# Altium integrated library Linear Technology Power Management Switching Regulator LTC1174-LTC3901.IntLib: 2647 symbols (part 277 of 364)
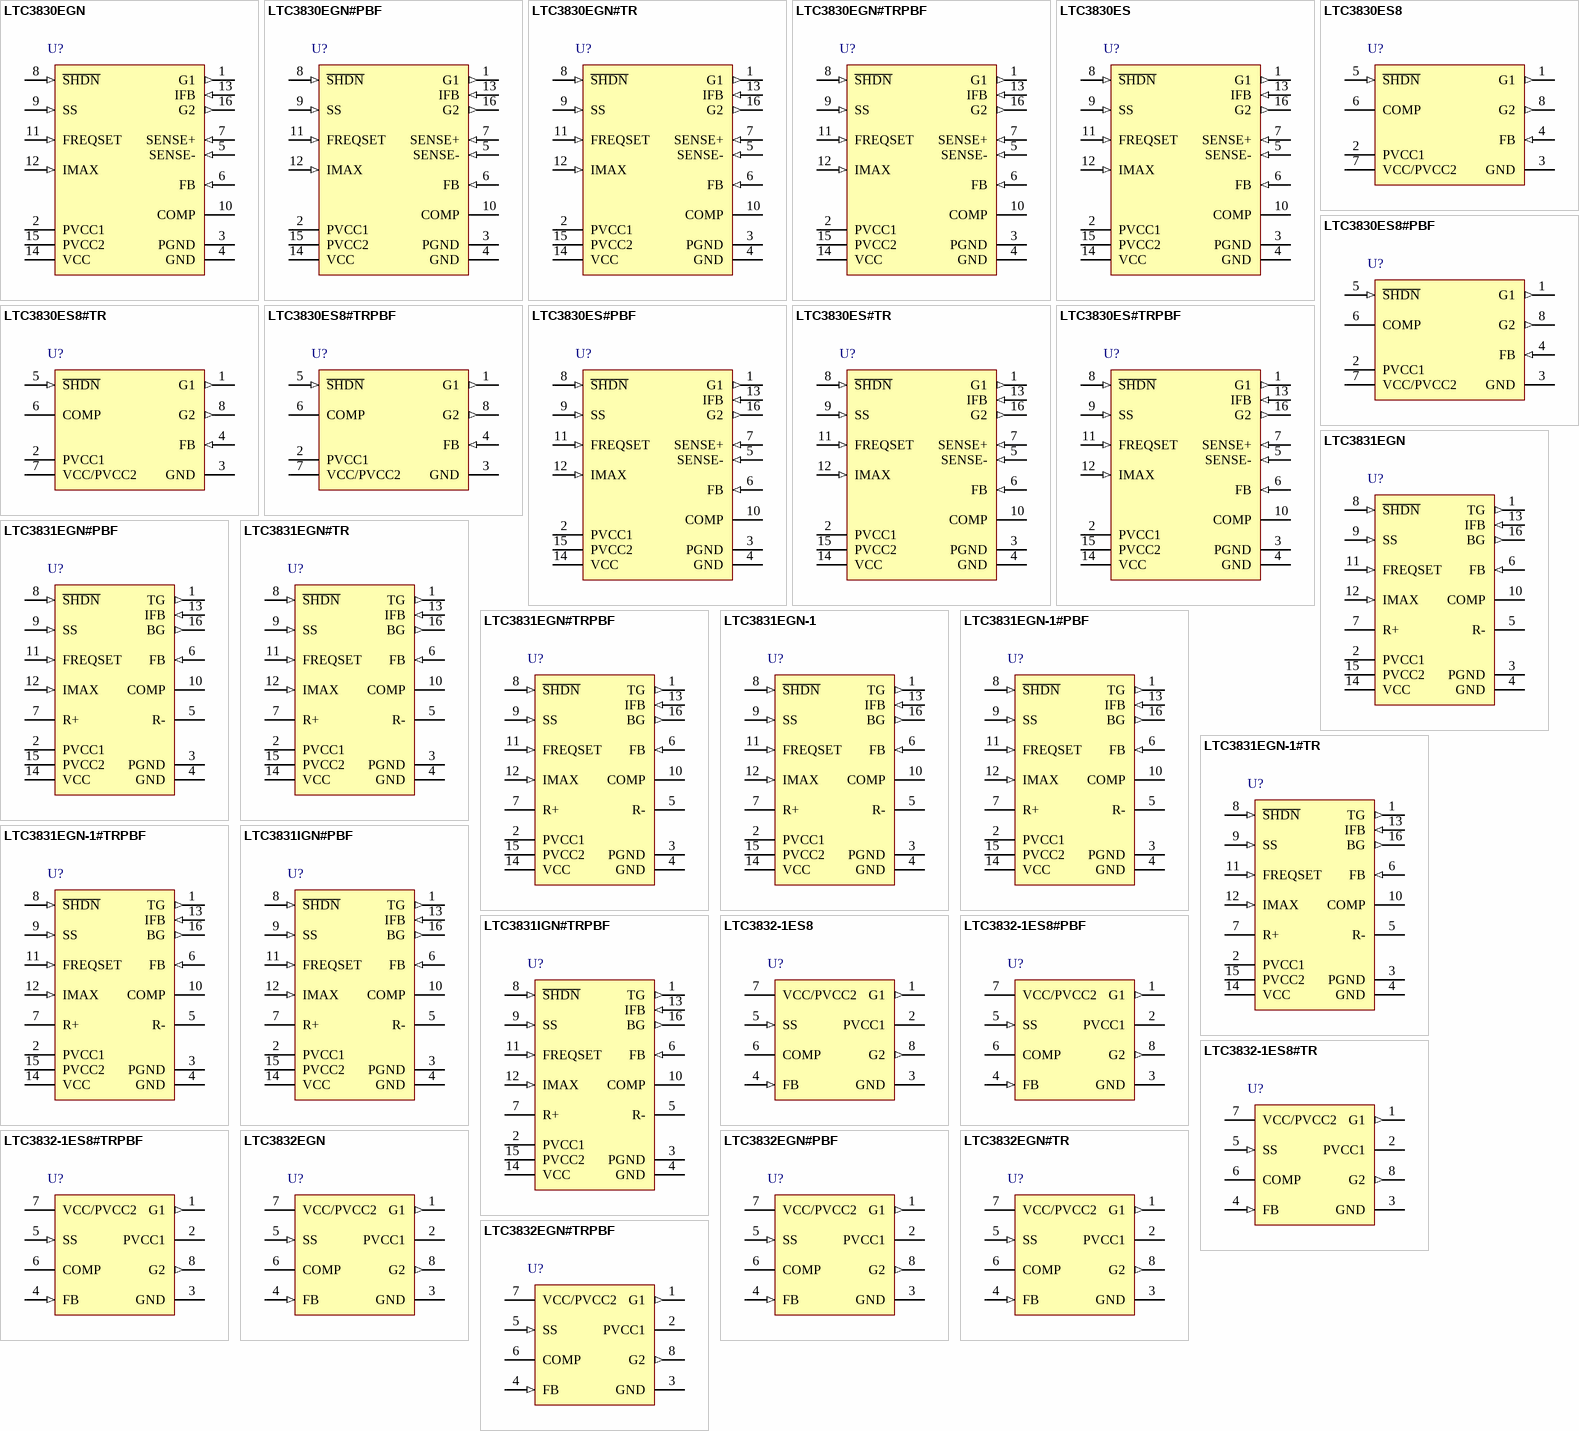
[diagram p259: symbols LTC3830EGN to LTC3832EGN#TRPBF]

## LTC3832EGN#PBF
designator U?
High Power Step-Down Synchronous DC/DC Controller for Low Voltage Operation, 16-pin SOP (GN-16), -40 to 85 degC, Pb-Free; Manufacturer: Linear Technology; PartNumber: LTC3832EGN#PBF; Frequency Sync Range: 100kHz - 500kHz; Number of Outputs: 1; PackageVersion: Rev. B, 03/2012; PackageReference: GN-16; PackageDescription: 16-Pin Plastic SSOP, Body 4.9 x 3.9 mm, Pitch 0.635 mm; Supplier 1: Digi-Key; Supplier Part Number 1: LTC3832EGN#PBF-ND; Supplier 2: Newark; Supplier Part Number 2: 56M8586; RoHS: TRUE; Mounting Technology: Surface Mount; ComponentLink1Description: Manufacturer URL; ComponentLink1URL: http://www.linear.com/; ComponentLink2Description: Datasheet; ComponentLink2URL: http://cds.linear.com/docs/en/datasheet/3832fs.pdf; ComponentLink3Description: Package Specification; ComponentLink3URL: http://cds.linear.com/docs/en/packaging/05081641_B_GN16.pdf
footprint LT-GN-16_N (SOP, 16-Leads, Body 5x4mm, Pitch 0.635mm, IPC Medium Density)
footprint LT-GN-16_L (SOP, 16-Leads, Body 5x4mm, Pitch 0.635mm, IPC High Density)
footprint LT-GN-16_M (SOP, 16-Leads, Body 5x4mm, Pitch 0.635mm, IPC Low Density)
pins: 1 G1 (out) "Top Gate Driver Output. Connect this pin to the gate of the upper N-channel MOSFET, Q1. This output swings from PGND to PVCC1. It remains low if G2 is high or during shutdown mode.", 2 PVCC1 (power) "Power Supply Input for G1. Connect this pin to a potential of at least VIN + VGS(ON)(Q1). This potential can be generated using an external supply or charge pump.", 3 GND (power) "Signal Ground. All low power internal circuitry returns to this pin.", 4 FB (in) "These three pins connect to the internal resistor divider and input of the error amplifier.", 5 SS (in) "Soft-Start. Connect this pin to an external capacitor, CSS, to implement a soft-start function.", 6 COMP "External Compensation. This pin internally connects to the output of the error amplifier and input of the PWM comparator. Use a RC + C network at this pin to compensate the feedback loop to provide optimum transient response.", 7 VCC/PVCC2 (power), 8 G2 (out) "Bottom Gate Driver Output. Connect this pin to the gate of the lower N-channel MOSFET, Q2. This output swings from PGND to PVCC2. It remains low when G1 is high or during shutdown mode. To prevent output undershoot during a (See Datasheet)"

## LTC3832EGN#TR
designator U?
High Power Step-Down Synchronous DC/DC Controller for Low Voltage Operation, 16-pin SOP (GN-16), -40 to 85 degC, Tape and Reel; Manufacturer: Linear Technology; PartNumber: LTC3832EGN#TR; Frequency Sync Range: 100kHz - 500kHz; Number of Outputs: 1; PackageVersion: Rev. B, 03/2012; PackageReference: GN-16; PackageDescription: 16-Pin Plastic SSOP, Body 4.9 x 3.9 mm, Pitch 0.635 mm; Supplier 1: Digi-Key; Supplier Part Number 1: LTC3832EGN#TR-ND; Packing: Tape and Reel; RoHS: FALSE; Mounting Technology: Surface Mount; ComponentLink1Description: Manufacturer URL; ComponentLink1URL: http://www.linear.com/; ComponentLink2Description: Datasheet; ComponentLink2URL: http://cds.linear.com/docs/en/datasheet/3832fs.pdf; ComponentLink3Description: Package Specification; ComponentLink3URL: http://cds.linear.com/docs/en/packaging/05081641_B_GN16.pdf
footprint LT-GN-16_N (SOP, 16-Leads, Body 5x4mm, Pitch 0.635mm, IPC Medium Density)
footprint LT-GN-16_L (SOP, 16-Leads, Body 5x4mm, Pitch 0.635mm, IPC High Density)
footprint LT-GN-16_M (SOP, 16-Leads, Body 5x4mm, Pitch 0.635mm, IPC Low Density)
pins: 1 G1 (out) "Top Gate Driver Output. Connect this pin to the gate of the upper N-channel MOSFET, Q1. This output swings from PGND to PVCC1. It remains low if G2 is high or during shutdown mode.", 2 PVCC1 (power) "Power Supply Input for G1. Connect this pin to a potential of at least VIN + VGS(ON)(Q1). This potential can be generated using an external supply or charge pump.", 3 GND (power) "Signal Ground. All low power internal circuitry returns to this pin.", 4 FB (in) "These three pins connect to the internal resistor divider and input of the error amplifier.", 5 SS (in) "Soft-Start. Connect this pin to an external capacitor, CSS, to implement a soft-start function.", 6 COMP "External Compensation. This pin internally connects to the output of the error amplifier and input of the PWM comparator. Use a RC + C network at this pin to compensate the feedback loop to provide optimum transient response.", 7 VCC/PVCC2 (power), 8 G2 (out) "Bottom Gate Driver Output. Connect this pin to the gate of the lower N-channel MOSFET, Q2. This output swings from PGND to PVCC2. It remains low when G1 is high or during shutdown mode. To prevent output undershoot during a (See Datasheet)"

## LTC3832EGN#TRPBF
designator U?
High Power Step-Down Synchronous DC/DC Controller for Low Voltage Operation, 16-pin SOP (GN-16), -40 to 85 degC, Pb-Free, Tape and Reel; Manufacturer: Linear Technology; PartNumber: LTC3832EGN#TRPBF; Frequency Sync Range: 100kHz - 500kHz; Number of Outputs: 1; PackageVersion: Rev. B, 03/2012; PackageReference: GN-16; PackageDescription: 16-Pin Plastic SSOP, Body 4.9 x 3.9 mm, Pitch 0.635 mm; Supplier 1: Digi-Key; Supplier Part Number 1: LTC3832EGN#TRPBFTR-ND; Supplier 2: Digi-Key; Supplier Part Number 2: LTC3832EGN#TRPBFCT-ND; Supplier 3: Digi-Key; Supplier Part Number 3: LTC3832EGN#TRPBFDKR-ND; Supplier 4: Newark; Supplier Part Number 4: 56M8588; Packing: Tape and Reel; RoHS: TRUE; Mounting Technology: Surface Mount; ComponentLink1Description: Manufacturer URL; ComponentLink1URL: http://www.linear.com/; ComponentLink2Description: Datasheet; ComponentLink2URL: http://cds.linear.com/docs/en/datasheet/3832fs.pdf; ComponentLink3Description: Package Specification; ComponentLink3URL: http://cds.linear.com/docs/en/packaging/05081641_B_GN16.pdf
footprint LT-GN-16_N (SOP, 16-Leads, Body 5x4mm, Pitch 0.635mm, IPC Medium Density)
footprint LT-GN-16_L (SOP, 16-Leads, Body 5x4mm, Pitch 0.635mm, IPC High Density)
footprint LT-GN-16_M (SOP, 16-Leads, Body 5x4mm, Pitch 0.635mm, IPC Low Density)
pins: 1 G1 (out) "Top Gate Driver Output. Connect this pin to the gate of the upper N-channel MOSFET, Q1. This output swings from PGND to PVCC1. It remains low if G2 is high or during shutdown mode.", 2 PVCC1 (power) "Power Supply Input for G1. Connect this pin to a potential of at least VIN + VGS(ON)(Q1). This potential can be generated using an external supply or charge pump.", 3 GND (power) "Signal Ground. All low power internal circuitry returns to this pin.", 4 FB (in) "These three pins connect to the internal resistor divider and input of the error amplifier.", 5 SS (in) "Soft-Start. Connect this pin to an external capacitor, CSS, to implement a soft-start function.", 6 COMP "External Compensation. This pin internally connects to the output of the error amplifier and input of the PWM comparator. Use a RC + C network at this pin to compensate the feedback loop to provide optimum transient response.", 7 VCC/PVCC2 (power), 8 G2 (out) "Bottom Gate Driver Output. Connect this pin to the gate of the lower N-channel MOSFET, Q2. This output swings from PGND to PVCC2. It remains low when G1 is high or during shutdown mode. To prevent output undershoot during a (See Datasheet)"

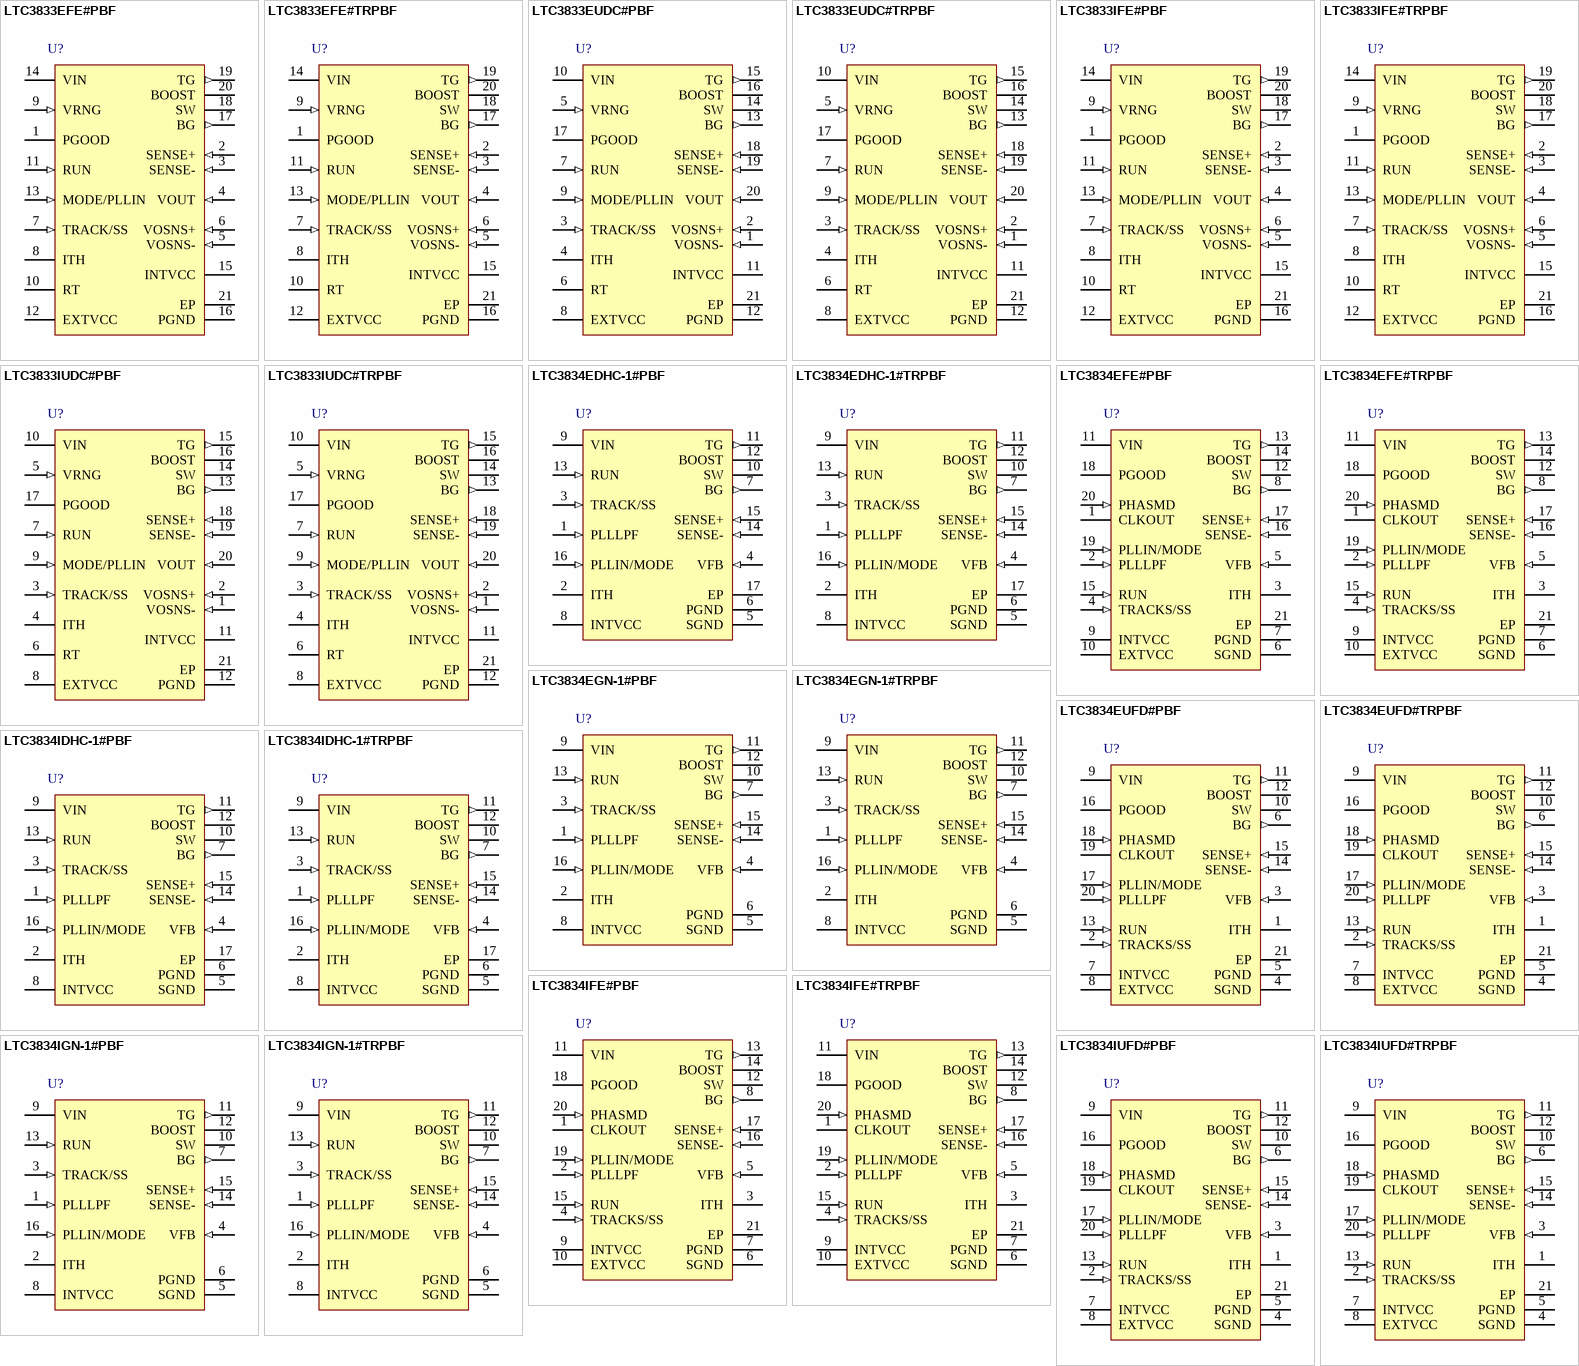
[diagram p86: symbols LTC3833EFE#PBF to LTC3834IUFD#TRPBF]

## LTC3833EFE#PBF
designator U?
Fast, Accurate Step-Down DC/DC Controller with Differential Output Sensing, 20-pin SOP (FE-20-EPV-CB), -40 to 125 degC, Pb-Free; Manufacturer: Linear Technology; PartNumber: LTC3833EFE#PBF; Frequency Sync Range: 200kHz - 2MHz; Number of Outputs: 1; PackageVersion: Rev. I, 05/2011; PackageReference: FE-20; PackageDescription: 20-Pin Plastic TSSOP, Body 6.5 x 4.4 mm, Pitch 0.65 mm; Supplier 1: Digi-Key; Supplier Part Number 1: LTC3833EFE#PBF-ND; Supplier 2: Farnell; Supplier Part Number 2: 1869417; Supplier 3: Newark; Supplier Part Number 3: 13T3919; RoHS: TRUE; Mounting Technology: Surface Mount; ComponentLink1Description: Manufacturer URL; ComponentLink1URL: http://www.linear.com/; ComponentLink2Description: Datasheet; ComponentLink2URL: http://cds.linear.com/docs/en/datasheet/3833f.pdf; ComponentLink3Description: Package Specification; ComponentLink3URL: http://cds.linear.com/docs/en/packaging/05081663__J_FE20(CB).pdf
footprint LT-FE-20-EPV-CB_N (SOP, 20-Leads, Body 6.6x4.5mm, Pitch 0.65mm, Thermal Pad 3.86x2.74mm, IPC Medium Density)
footprint LT-FE-20-EPV-CB_L (SOP, 20-Leads, Body 6.6x4.5mm, Pitch 0.65mm, Thermal Pad 3.86x2.74mm, IPC High Density)
footprint LT-FE-20-EPV-CB_M (SOP, 20-Leads, Body 6.6x4.5mm, Pitch 0.65mm, Thermal Pad 3.86x2.74mm, IPC Low Density)
pins: 1 PGOOD (oc) "Power Good Indicator Output. This open-drain logic output is pulled to ground when the output voltage is outside of a +/-7.5% window around the regulation point.", 2 SENSE+ (in) "Differential Current Sensing (+) Input. For RSENSE current sensing, Kelvin (4-wire) connect SENSE+ and SENSE- pins across the sense resistor. For DCR sensing, Kelvin connect SENSE+ and SENSE- pins across the sense filter (See Datasheet)", 3 SENSE- (in) "Differential Current Sensing (-) Input. For RSENSE current sensing, Kelvin (4-wire) connect SENSE+ and SENSE- pins across the sense resistor. For DCR sensing, Kelvin connect SENSE+ and SENSE- pins across the sense filter (See Datasheet)", 4 VOUT (in) "Output voltage sense for adjusting the TG on-time for constant frequency operation. Tying this pin to the local output (instead of remote output) is recommended for most applications. This pin can be programmed as needed for (See Datasheet)", 5 VOSNS- (in) "Differential Output Sensing (-) Input. Connect this pin to the negative terminal of the output capacitor. There is a bias current of 35uA (typical) flowing out of this pin.", 6 VOSNS+ (in) "Differential Output Sensing (+) Input. Connect this pin to the feedback resistor divider between the positive and negative output capacitor terminals. In nominal operation the LTC3833 will regulate the differential output (See Datasheet)", 7 TRACK/SS (in) "External Tracking and Soft-Start Input. The LTC3833 regulates the differential feedback voltage (VOSNS + - VOSNS -) to the smaller of 0.6V or the voltage on the TRACK/SS pin. An internal 1.0uA pull-up current source is (See Datasheet)", 8 ITH "Current Control Voltage and Switching Regulator Compensation Point. The current sense threshold increases with this control voltage which ranges from 0V to 2.4V.", 9 VRNG (in) "Current Sense Voltage Range Input. The maximum allowed sense voltage between SENSE+ and SENSE- is equal to 0.05 • VRNG. If VRNG is tied to SGND, the device operates with a maximum sense voltage of 30mV. If VRNG is tied t(See Datasheet)", 10 RT "Switching Frequency Programming Pin. Connect an external resistor from RT to signal ground to program the switching frequency between 200kHz and 2MHz. An external clock applied to MODE/PLLIN must be within +/-30% of this (See Datasheet)", 11 RUN (in) "Digital Run Control Input. RUN self biases high with an internal 1.3uA pull-up. Forcing RUN below 1.2V turns off TG and BG. Taking RUN below 0.75V shuts down all bias and places the LTC3833 into micropower shutdown mode of (See Datasheet)", 12 EXTVCC (power) "External VCC Input. When EXTVCC exceeds 4.6V, an internal switch connects this pin to INTVCC and shuts down the internal regulator so that the controller and gate drive power is drawn from EXTVCC. EXTVCC should not exceed (See Datasheet)", 13 MODE/PLLIN (in) "External Clock Synchronization Input and/or Forced Continuous Mode Input. When an external clock is applied to this pin, the rising TG signal will be synchronized with the rising edge of the external clock. Additionally, (See Datasheet)", 14 VIN (power) "Main Supply Input. The supply voltage can range from 4.5V to 38V. For increased noise immunity decouple this pin to signal ground with an RC filter. The voltage on this pin is also used to adjust the TG on-time in order to (See Datasheet)", 15 INTVCC (power) "Internal 5.3V Regulator Output. The driver and control circuits are powered from this voltage. Decouple this pin to power ground with a minimum of 4.7uF ceramic capacitor (CVCC). The anode of the Schottky diode, DB, connects (See Datasheet)", 16 PGND (power) "Power Ground Connection. Connect this pin as close as practical to the source of the bottom N-channel power MOSFET, the (-) terminal of CVCC and the (-) terminal of CIN.", 17 BG (out) "Bottom Gate Drive Output. This pin drives the gate of the bottom N-channel power MOSFET between INTVCC and power ground.", 18 SW "Switch Node Connection. The (-) terminal of the bootstrap capacitor, CB, connects to this node. This pin swings from a diode voltage below ground up to VIN.", 19 TG (out) "Top Gate Drive Output. This pin drives the gate of the top N-Channel power MOSFET between VSW and VBOOST .", 20 BOOST "Boosted Driver Supply Connection. The (+) terminal of the bootstrap capacitor, CB, as well as the cathode of the Schottky diode, DB, connects to this node. This node swings from INTVCC - VSCHOTTKY to VIN + INTVCC - VSCHOTTKY.", 21 EP (power) "Signal Ground Connection. The SGND exposed pad must be soldered to the circuit board for electrical contact and rated thermal performance. All small-signal components should be connected to the signal ground. Connect signal (See Datasheet)"

## LTC3833EFE#TRPBF
designator U?
Fast, Accurate Step-Down DC/DC Controller with Differential Output Sensing, 20-pin SOP (FE-20-EPV-CB), -40 to 125 degC, Pb-Free, Tape and Reel; Manufacturer: Linear Technology; PartNumber: LTC3833EFE#TRPBF; Frequency Sync Range: 200kHz - 2MHz; Number of Outputs: 1; PackageVersion: Rev. I, 05/2011; PackageReference: FE-20; PackageDescription: 20-Pin Plastic TSSOP, Body 6.5 x 4.4 mm, Pitch 0.65 mm; Supplier 1: Digi-Key; Supplier Part Number 1: LTC3833EFE#TRPBF-ND; Packing: Tape and Reel; RoHS: TRUE; Mounting Technology: Surface Mount; ComponentLink1Description: Manufacturer URL; ComponentLink1URL: http://www.linear.com/; ComponentLink2Description: Datasheet; ComponentLink2URL: http://cds.linear.com/docs/en/datasheet/3833f.pdf; ComponentLink3Description: Package Specification; ComponentLink3URL: http://cds.linear.com/docs/en/packaging/05081663__J_FE20(CB).pdf
footprint LT-FE-20-EPV-CB_N (SOP, 20-Leads, Body 6.6x4.5mm, Pitch 0.65mm, Thermal Pad 3.86x2.74mm, IPC Medium Density)
footprint LT-FE-20-EPV-CB_L (SOP, 20-Leads, Body 6.6x4.5mm, Pitch 0.65mm, Thermal Pad 3.86x2.74mm, IPC High Density)
footprint LT-FE-20-EPV-CB_M (SOP, 20-Leads, Body 6.6x4.5mm, Pitch 0.65mm, Thermal Pad 3.86x2.74mm, IPC Low Density)
pins: 1 PGOOD (oc) "Power Good Indicator Output. This open-drain logic output is pulled to ground when the output voltage is outside of a +/-7.5% window around the regulation point.", 2 SENSE+ (in) "Differential Current Sensing (+) Input. For RSENSE current sensing, Kelvin (4-wire) connect SENSE+ and SENSE- pins across the sense resistor. For DCR sensing, Kelvin connect SENSE+ and SENSE- pins across the sense filter (See Datasheet)", 3 SENSE- (in) "Differential Current Sensing (-) Input. For RSENSE current sensing, Kelvin (4-wire) connect SENSE+ and SENSE- pins across the sense resistor. For DCR sensing, Kelvin connect SENSE+ and SENSE- pins across the sense filter (See Datasheet)", 4 VOUT (in) "Output voltage sense for adjusting the TG on-time for constant frequency operation. Tying this pin to the local output (instead of remote output) is recommended for most applications. This pin can be programmed as needed for (See Datasheet)", 5 VOSNS- (in) "Differential Output Sensing (-) Input. Connect this pin to the negative terminal of the output capacitor. There is a bias current of 35uA (typical) flowing out of this pin.", 6 VOSNS+ (in) "Differential Output Sensing (+) Input. Connect this pin to the feedback resistor divider between the positive and negative output capacitor terminals. In nominal operation the LTC3833 will regulate the differential output (See Datasheet)", 7 TRACK/SS (in) "External Tracking and Soft-Start Input. The LTC3833 regulates the differential feedback voltage (VOSNS + - VOSNS -) to the smaller of 0.6V or the voltage on the TRACK/SS pin. An internal 1.0uA pull-up current source is (See Datasheet)", 8 ITH "Current Control Voltage and Switching Regulator Compensation Point. The current sense threshold increases with this control voltage which ranges from 0V to 2.4V.", 9 VRNG (in) "Current Sense Voltage Range Input. The maximum allowed sense voltage between SENSE+ and SENSE- is equal to 0.05 • VRNG. If VRNG is tied to SGND, the device operates with a maximum sense voltage of 30mV. If VRNG is tied t(See Datasheet)", 10 RT "Switching Frequency Programming Pin. Connect an external resistor from RT to signal ground to program the switching frequency between 200kHz and 2MHz. An external clock applied to MODE/PLLIN must be within +/-30% of this (See Datasheet)", 11 RUN (in) "Digital Run Control Input. RUN self biases high with an internal 1.3uA pull-up. Forcing RUN below 1.2V turns off TG and BG. Taking RUN below 0.75V shuts down all bias and places the LTC3833 into micropower shutdown mode of (See Datasheet)", 12 EXTVCC (power) "External VCC Input. When EXTVCC exceeds 4.6V, an internal switch connects this pin to INTVCC and shuts down the internal regulator so that the controller and gate drive power is drawn from EXTVCC. EXTVCC should not exceed (See Datasheet)", 13 MODE/PLLIN (in) "External Clock Synchronization Input and/or Forced Continuous Mode Input. When an external clock is applied to this pin, the rising TG signal will be synchronized with the rising edge of the external clock. Additionally, (See Datasheet)", 14 VIN (power) "Main Supply Input. The supply voltage can range from 4.5V to 38V. For increased noise immunity decouple this pin to signal ground with an RC filter. The voltage on this pin is also used to adjust the TG on-time in order to (See Datasheet)", 15 INTVCC (power) "Internal 5.3V Regulator Output. The driver and control circuits are powered from this voltage. Decouple this pin to power ground with a minimum of 4.7uF ceramic capacitor (CVCC). The anode of the Schottky diode, DB, connects (See Datasheet)", 16 PGND (power) "Power Ground Connection. Connect this pin as close as practical to the source of the bottom N-channel power MOSFET, the (-) terminal of CVCC and the (-) terminal of CIN.", 17 BG (out) "Bottom Gate Drive Output. This pin drives the gate of the bottom N-channel power MOSFET between INTVCC and power ground.", 18 SW "Switch Node Connection. The (-) terminal of the bootstrap capacitor, CB, connects to this node. This pin swings from a diode voltage below ground up to VIN.", 19 TG (out) "Top Gate Drive Output. This pin drives the gate of the top N-Channel power MOSFET between VSW and VBOOST .", 20 BOOST "Boosted Driver Supply Connection. The (+) terminal of the bootstrap capacitor, CB, as well as the cathode of the Schottky diode, DB, connects to this node. This node swings from INTVCC - VSCHOTTKY to VIN + INTVCC - VSCHOTTKY.", 21 EP (power) "Signal Ground Connection. The SGND exposed pad must be soldered to the circuit board for electrical contact and rated thermal performance. All small-signal components should be connected to the signal ground. Connect signal (See Datasheet)"

## LTC3833EUDC#PBF
designator U?
Fast, Accurate Step-Down DC/DC Controller with Differential Output Sensing, 20-pin QFN (UDC-20), -40 to 125 degC, Pb-Free; Manufacturer: Linear Technology; PartNumber: LTC3833EUDC#PBF; Frequency Sync Range: 200kHz - 2MHz; Number of Outputs: 1; PackageVersion: Rev. Ø, 06/2010; PackageReference: UDC20; PackageDescription: 20-Pin Plastic QFN, Body 3 x 4 mm, Pitch 0.5 mm; Supplier 1: Digi-Key; Supplier Part Number 1: LTC3833EUDC#PBF-ND; Supplier 2: Newark; Supplier Part Number 2: 13T3921; RoHS: TRUE; Mounting Technology: Surface Mount; ComponentLink1Description: Manufacturer URL; ComponentLink1URL: http://www.linear.com/; ComponentLink2Description: Datasheet; ComponentLink2URL: http://cds.linear.com/docs/en/datasheet/3833f.pdf; ComponentLink3Description: Package Specification; ComponentLink3URL: http://cds.linear.com/docs/en/packaging/QFN_20_05-08-1742.pdf
footprint LT-UDC-20_N (QFN, 20-Leads, Body 4.1x3.1mm, Pitch 0.5mm, Thermal Pad 2.65x1.65mm, IPC Medium Density)
footprint LT-UDC-20_L (QFN, 20-Leads, Body 4.1x3.1mm, Pitch 0.5mm, Thermal Pad 2.65x1.65mm, IPC High Density)
footprint LT-UDC-20_M (QFN, 20-Leads, Body 4.1x3.1mm, Pitch 0.5mm, Thermal Pad 2.65x1.65mm, IPC Low Density)
pins: 1 VOSNS- (in) "Differential Output Sensing (-) Input. Connect this pin to the negative terminal of the output capacitor. There is a bias current of 35uA (typical) flowing out of this pin.", 2 VOSNS+ (in) "Differential Output Sensing (+) Input. Connect this pin to the feedback resistor divider between the positive and negative output capacitor terminals. In nominal operation the LTC3833 will regulate the differential output (See Datasheet)", 3 TRACK/SS (in) "External Tracking and Soft-Start Input. The LTC3833 regulates the differential feedback voltage (VOSNS + - VOSNS -) to the smaller of 0.6V or the voltage on the TRACK/SS pin. An internal 1.0uA pull-up current source is (See Datasheet)", 4 ITH "Current Control Voltage and Switching Regulator Compensation Point. The current sense threshold increases with this control voltage which ranges from 0V to 2.4V.", 5 VRNG (in) "Current Sense Voltage Range Input. The maximum allowed sense voltage between SENSE+ and SENSE- is equal to 0.05 • VRNG. If VRNG is tied to SGND, the device operates with a maximum sense voltage of 30mV. If VRNG is tied t(See Datasheet)", 6 RT "Switching Frequency Programming Pin. Connect an external resistor from RT to signal ground to program the switching frequency between 200kHz and 2MHz. An external clock applied to MODE/PLLIN must be within +/-30% of this (See Datasheet)", 7 RUN (in) "Digital Run Control Input. RUN self biases high with an internal 1.3uA pull-up. Forcing RUN below 1.2V turns off TG and BG. Taking RUN below 0.75V shuts down all bias and places the LTC3833 into micropower shutdown mode of (See Datasheet)", 8 EXTVCC (power) "External VCC Input. When EXTVCC exceeds 4.6V, an internal switch connects this pin to INTVCC and shuts down the internal regulator so that the controller and gate drive power is drawn from EXTVCC. EXTVCC should not exceed (See Datasheet)", 9 MODE/PLLIN (in) "External Clock Synchronization Input and/or Forced Continuous Mode Input. When an external clock is applied to this pin, the rising TG signal will be synchronized with the rising edge of the external clock. Additionally, (See Datasheet)", 10 VIN (power) "Main Supply Input. The supply voltage can range from 4.5V to 38V. For increased noise immunity decouple this pin to signal ground with an RC filter. The voltage on this pin is also used to adjust the TG on-time in order to (See Datasheet)", 11 INTVCC (power) "Internal 5.3V Regulator Output. The driver and control circuits are powered from this voltage. Decouple this pin to power ground with a minimum of 4.7uF ceramic capacitor (CVCC). The anode of the Schottky diode, DB, connects (See Datasheet)", 12 PGND (power) "Power Ground Connection. Connect this pin as close as practical to the source of the bottom N-channel power MOSFET, the (-) terminal of CVCC and the (-) terminal of CIN.", 13 BG (out) "Bottom Gate Drive Output. This pin drives the gate of the bottom N-channel power MOSFET between INTVCC and power ground.", 14 SW "Switch Node Connection. The (-) terminal of the bootstrap capacitor, CB, connects to this node. This pin swings from a diode voltage below ground up to VIN.", 15 TG (out) "Top Gate Drive Output. This pin drives the gate of the top N-Channel power MOSFET between VSW and VBOOST .", 16 BOOST "Boosted Driver Supply Connection. The (+) terminal of the bootstrap capacitor, CB, as well as the cathode of the Schottky diode, DB, connects to this node. This node swings from INTVCC - VSCHOTTKY to VIN + INTVCC - VSCHOTTKY.", 17 PGOOD (oc) "Power Good Indicator Output. This open-drain logic output is pulled to ground when the output voltage is outside of a +/-7.5% window around the regulation point.", 18 SENSE+ (in) "Differential Current Sensing (+) Input. For RSENSE current sensing, Kelvin (4-wire) connect SENSE+ and SENSE- pins across the sense resistor. For DCR sensing, Kelvin connect SENSE+ and SENSE- pins across the sense filter (See Datasheet)", 19 SENSE- (in) "Differential Current Sensing (-) Input. For RSENSE current sensing, Kelvin (4-wire) connect SENSE+ and SENSE- pins across the sense resistor. For DCR sensing, Kelvin connect SENSE+ and SENSE- pins across the sense filter (See Datasheet)", 20 VOUT (in) "Output voltage sense for adjusting the TG on-time for constant frequency operation. Tying this pin to the local output (instead of remote output) is recommended for most applications. This pin can be programmed as needed for (See Datasheet)", 21 EP (power) "Signal Ground Connection. The SGND exposed pad must be soldered to the circuit board for electrical contact and rated thermal performance. All small-signal components should be connected to the signal ground. Connect signal (See Datasheet)"

## LTC3833EUDC#TRPBF
designator U?
Fast, Accurate Step-Down DC/DC Controller with Differential Output Sensing, 20-pin QFN (UDC-20), -40 to 125 degC, Pb-Free, Tape and Reel; Manufacturer: Linear Technology; PartNumber: LTC3833EUDC#TRPBF; Frequency Sync Range: 200kHz - 2MHz; Number of Outputs: 1; PackageVersion: Rev. Ø, 06/2010; PackageReference: UDC20; PackageDescription: 20-Pin Plastic QFN, Body 3 x 4 mm, Pitch 0.5 mm; Supplier 1: Digi-Key; Supplier Part Number 1: LTC3833EUDC#TRPBF-ND; Packing: Tape and Reel; RoHS: TRUE; Mounting Technology: Surface Mount; ComponentLink1Description: Manufacturer URL; ComponentLink1URL: http://www.linear.com/; ComponentLink2Description: Datasheet; ComponentLink2URL: http://cds.linear.com/docs/en/datasheet/3833f.pdf; ComponentLink3Description: Package Specification; ComponentLink3URL: http://cds.linear.com/docs/en/packaging/QFN_20_05-08-1742.pdf
footprint LT-UDC-20_N (QFN, 20-Leads, Body 4.1x3.1mm, Pitch 0.5mm, Thermal Pad 2.65x1.65mm, IPC Medium Density)
footprint LT-UDC-20_L (QFN, 20-Leads, Body 4.1x3.1mm, Pitch 0.5mm, Thermal Pad 2.65x1.65mm, IPC High Density)
footprint LT-UDC-20_M (QFN, 20-Leads, Body 4.1x3.1mm, Pitch 0.5mm, Thermal Pad 2.65x1.65mm, IPC Low Density)
pins: 1 VOSNS- (in) "Differential Output Sensing (-) Input. Connect this pin to the negative terminal of the output capacitor. There is a bias current of 35uA (typical) flowing out of this pin.", 2 VOSNS+ (in) "Differential Output Sensing (+) Input. Connect this pin to the feedback resistor divider between the positive and negative output capacitor terminals. In nominal operation the LTC3833 will regulate the differential output (See Datasheet)", 3 TRACK/SS (in) "External Tracking and Soft-Start Input. The LTC3833 regulates the differential feedback voltage (VOSNS + - VOSNS -) to the smaller of 0.6V or the voltage on the TRACK/SS pin. An internal 1.0uA pull-up current source is (See Datasheet)", 4 ITH "Current Control Voltage and Switching Regulator Compensation Point. The current sense threshold increases with this control voltage which ranges from 0V to 2.4V.", 5 VRNG (in) "Current Sense Voltage Range Input. The maximum allowed sense voltage between SENSE+ and SENSE- is equal to 0.05 • VRNG. If VRNG is tied to SGND, the device operates with a maximum sense voltage of 30mV. If VRNG is tied t(See Datasheet)", 6 RT "Switching Frequency Programming Pin. Connect an external resistor from RT to signal ground to program the switching frequency between 200kHz and 2MHz. An external clock applied to MODE/PLLIN must be within +/-30% of this (See Datasheet)", 7 RUN (in) "Digital Run Control Input. RUN self biases high with an internal 1.3uA pull-up. Forcing RUN below 1.2V turns off TG and BG. Taking RUN below 0.75V shuts down all bias and places the LTC3833 into micropower shutdown mode of (See Datasheet)", 8 EXTVCC (power) "External VCC Input. When EXTVCC exceeds 4.6V, an internal switch connects this pin to INTVCC and shuts down the internal regulator so that the controller and gate drive power is drawn from EXTVCC. EXTVCC should not exceed (See Datasheet)", 9 MODE/PLLIN (in) "External Clock Synchronization Input and/or Forced Continuous Mode Input. When an external clock is applied to this pin, the rising TG signal will be synchronized with the rising edge of the external clock. Additionally, (See Datasheet)", 10 VIN (power) "Main Supply Input. The supply voltage can range from 4.5V to 38V. For increased noise immunity decouple this pin to signal ground with an RC filter. The voltage on this pin is also used to adjust the TG on-time in order to (See Datasheet)", 11 INTVCC (power) "Internal 5.3V Regulator Output. The driver and control circuits are powered from this voltage. Decouple this pin to power ground with a minimum of 4.7uF ceramic capacitor (CVCC). The anode of the Schottky diode, DB, connects (See Datasheet)", 12 PGND (power) "Power Ground Connection. Connect this pin as close as practical to the source of the bottom N-channel power MOSFET, the (-) terminal of CVCC and the (-) terminal of CIN.", 13 BG (out) "Bottom Gate Drive Output. This pin drives the gate of the bottom N-channel power MOSFET between INTVCC and power ground.", 14 SW "Switch Node Connection. The (-) terminal of the bootstrap capacitor, CB, connects to this node. This pin swings from a diode voltage below ground up to VIN.", 15 TG (out) "Top Gate Drive Output. This pin drives the gate of the top N-Channel power MOSFET between VSW and VBOOST .", 16 BOOST "Boosted Driver Supply Connection. The (+) terminal of the bootstrap capacitor, CB, as well as the cathode of the Schottky diode, DB, connects to this node. This node swings from INTVCC - VSCHOTTKY to VIN + INTVCC - VSCHOTTKY.", 17 PGOOD (oc) "Power Good Indicator Output. This open-drain logic output is pulled to ground when the output voltage is outside of a +/-7.5% window around the regulation point.", 18 SENSE+ (in) "Differential Current Sensing (+) Input. For RSENSE current sensing, Kelvin (4-wire) connect SENSE+ and SENSE- pins across the sense resistor. For DCR sensing, Kelvin connect SENSE+ and SENSE- pins across the sense filter (See Datasheet)", 19 SENSE- (in) "Differential Current Sensing (-) Input. For RSENSE current sensing, Kelvin (4-wire) connect SENSE+ and SENSE- pins across the sense resistor. For DCR sensing, Kelvin connect SENSE+ and SENSE- pins across the sense filter (See Datasheet)", 20 VOUT (in) "Output voltage sense for adjusting the TG on-time for constant frequency operation. Tying this pin to the local output (instead of remote output) is recommended for most applications. This pin can be programmed as needed for (See Datasheet)", 21 EP (power) "Signal Ground Connection. The SGND exposed pad must be soldered to the circuit board for electrical contact and rated thermal performance. All small-signal components should be connected to the signal ground. Connect signal (See Datasheet)"

## LTC3833IFE#PBF
designator U?
Fast, Accurate Step-Down DC/DC Controller with Differential Output Sensing, 20-pin SOP (FE-20-EPV-CB), -40 to 125 degC, Pb-Free; Manufacturer: Linear Technology; PartNumber: LTC3833IFE#PBF; Frequency Sync Range: 200kHz - 2MHz; Number of Outputs: 1; PackageVersion: Rev. I, 05/2011; PackageReference: FE-20; PackageDescription: 20-Pin Plastic TSSOP, Body 6.5 x 4.4 mm, Pitch 0.65 mm; Supplier 1: Digi-Key; Supplier Part Number 1: LTC3833IFE#PBF-ND; RoHS: TRUE; Mounting Technology: Surface Mount; ComponentLink1Description: Manufacturer URL; ComponentLink1URL: http://www.linear.com/; ComponentLink2Description: Datasheet; ComponentLink2URL: http://cds.linear.com/docs/en/datasheet/3833f.pdf; ComponentLink3Description: Package Specification; ComponentLink3URL: http://cds.linear.com/docs/en/packaging/05081663__J_FE20(CB).pdf
footprint LT-FE-20-EPV-CB_N (SOP, 20-Leads, Body 6.6x4.5mm, Pitch 0.65mm, Thermal Pad 3.86x2.74mm, IPC Medium Density)
footprint LT-FE-20-EPV-CB_L (SOP, 20-Leads, Body 6.6x4.5mm, Pitch 0.65mm, Thermal Pad 3.86x2.74mm, IPC High Density)
footprint LT-FE-20-EPV-CB_M (SOP, 20-Leads, Body 6.6x4.5mm, Pitch 0.65mm, Thermal Pad 3.86x2.74mm, IPC Low Density)
pins: 1 PGOOD (oc) "Power Good Indicator Output. This open-drain logic output is pulled to ground when the output voltage is outside of a +/-7.5% window around the regulation point.", 2 SENSE+ (in) "Differential Current Sensing (+) Input. For RSENSE current sensing, Kelvin (4-wire) connect SENSE+ and SENSE- pins across the sense resistor. For DCR sensing, Kelvin connect SENSE+ and SENSE- pins across the sense filter (See Datasheet)", 3 SENSE- (in) "Differential Current Sensing (-) Input. For RSENSE current sensing, Kelvin (4-wire) connect SENSE+ and SENSE- pins across the sense resistor. For DCR sensing, Kelvin connect SENSE+ and SENSE- pins across the sense filter (See Datasheet)", 4 VOUT (in) "Output voltage sense for adjusting the TG on-time for constant frequency operation. Tying this pin to the local output (instead of remote output) is recommended for most applications. This pin can be programmed as needed for (See Datasheet)", 5 VOSNS- (in) "Differential Output Sensing (-) Input. Connect this pin to the negative terminal of the output capacitor. There is a bias current of 35uA (typical) flowing out of this pin.", 6 VOSNS+ (in) "Differential Output Sensing (+) Input. Connect this pin to the feedback resistor divider between the positive and negative output capacitor terminals. In nominal operation the LTC3833 will regulate the differential output (See Datasheet)", 7 TRACK/SS (in) "External Tracking and Soft-Start Input. The LTC3833 regulates the differential feedback voltage (VOSNS + - VOSNS -) to the smaller of 0.6V or the voltage on the TRACK/SS pin. An internal 1.0uA pull-up current source is (See Datasheet)", 8 ITH "Current Control Voltage and Switching Regulator Compensation Point. The current sense threshold increases with this control voltage which ranges from 0V to 2.4V.", 9 VRNG (in) "Current Sense Voltage Range Input. The maximum allowed sense voltage between SENSE+ and SENSE- is equal to 0.05 • VRNG. If VRNG is tied to SGND, the device operates with a maximum sense voltage of 30mV. If VRNG is tied t(See Datasheet)", 10 RT "Switching Frequency Programming Pin. Connect an external resistor from RT to signal ground to program the switching frequency between 200kHz and 2MHz. An external clock applied to MODE/PLLIN must be within +/-30% of this (See Datasheet)", 11 RUN (in) "Digital Run Control Input. RUN self biases high with an internal 1.3uA pull-up. Forcing RUN below 1.2V turns off TG and BG. Taking RUN below 0.75V shuts down all bias and places the LTC3833 into micropower shutdown mode of (See Datasheet)", 12 EXTVCC (power) "External VCC Input. When EXTVCC exceeds 4.6V, an internal switch connects this pin to INTVCC and shuts down the internal regulator so that the controller and gate drive power is drawn from EXTVCC. EXTVCC should not exceed (See Datasheet)", 13 MODE/PLLIN (in) "External Clock Synchronization Input and/or Forced Continuous Mode Input. When an external clock is applied to this pin, the rising TG signal will be synchronized with the rising edge of the external clock. Additionally, (See Datasheet)", 14 VIN (power) "Main Supply Input. The supply voltage can range from 4.5V to 38V. For increased noise immunity decouple this pin to signal ground with an RC filter. The voltage on this pin is also used to adjust the TG on-time in order to (See Datasheet)", 15 INTVCC (power) "Internal 5.3V Regulator Output. The driver and control circuits are powered from this voltage. Decouple this pin to power ground with a minimum of 4.7uF ceramic capacitor (CVCC). The anode of the Schottky diode, DB, connects (See Datasheet)", 16 PGND (power) "Power Ground Connection. Connect this pin as close as practical to the source of the bottom N-channel power MOSFET, the (-) terminal of CVCC and the (-) terminal of CIN.", 17 BG (out) "Bottom Gate Drive Output. This pin drives the gate of the bottom N-channel power MOSFET between INTVCC and power ground.", 18 SW "Switch Node Connection. The (-) terminal of the bootstrap capacitor, CB, connects to this node. This pin swings from a diode voltage below ground up to VIN.", 19 TG (out) "Top Gate Drive Output. This pin drives the gate of the top N-Channel power MOSFET between VSW and VBOOST .", 20 BOOST "Boosted Driver Supply Connection. The (+) terminal of the bootstrap capacitor, CB, as well as the cathode of the Schottky diode, DB, connects to this node. This node swings from INTVCC - VSCHOTTKY to VIN + INTVCC - VSCHOTTKY.", 21 EP (power) "Signal Ground Connection. The SGND exposed pad must be soldered to the circuit board for electrical contact and rated thermal performance. All small-signal components should be connected to the signal ground. Connect signal (See Datasheet)"

## LTC3833IFE#TRPBF
designator U?
Fast, Accurate Step-Down DC/DC Controller with Differential Output Sensing, 20-pin SOP (FE-20-EPV-CB), -40 to 125 degC, Pb-Free, Tape and Reel; Manufacturer: Linear Technology; PartNumber: LTC3833IFE#TRPBF; Frequency Sync Range: 200kHz - 2MHz; Number of Outputs: 1; PackageVersion: Rev. I, 05/2011; PackageReference: FE-20; PackageDescription: 20-Pin Plastic TSSOP, Body 6.5 x 4.4 mm, Pitch 0.65 mm; Supplier 1: Digi-Key; Supplier Part Number 1: LTC3833IFE#TRPBF-ND; Packing: Tape and Reel; RoHS: TRUE; Mounting Technology: Surface Mount; ComponentLink1Description: Manufacturer URL; ComponentLink1URL: http://www.linear.com/; ComponentLink2Description: Datasheet; ComponentLink2URL: http://cds.linear.com/docs/en/datasheet/3833f.pdf; ComponentLink3Description: Package Specification; ComponentLink3URL: http://cds.linear.com/docs/en/packaging/05081663__J_FE20(CB).pdf
footprint LT-FE-20-EPV-CB_N (SOP, 20-Leads, Body 6.6x4.5mm, Pitch 0.65mm, Thermal Pad 3.86x2.74mm, IPC Medium Density)
footprint LT-FE-20-EPV-CB_L (SOP, 20-Leads, Body 6.6x4.5mm, Pitch 0.65mm, Thermal Pad 3.86x2.74mm, IPC High Density)
footprint LT-FE-20-EPV-CB_M (SOP, 20-Leads, Body 6.6x4.5mm, Pitch 0.65mm, Thermal Pad 3.86x2.74mm, IPC Low Density)
pins: 1 PGOOD (oc) "Power Good Indicator Output. This open-drain logic output is pulled to ground when the output voltage is outside of a +/-7.5% window around the regulation point.", 2 SENSE+ (in) "Differential Current Sensing (+) Input. For RSENSE current sensing, Kelvin (4-wire) connect SENSE+ and SENSE- pins across the sense resistor. For DCR sensing, Kelvin connect SENSE+ and SENSE- pins across the sense filter (See Datasheet)", 3 SENSE- (in) "Differential Current Sensing (-) Input. For RSENSE current sensing, Kelvin (4-wire) connect SENSE+ and SENSE- pins across the sense resistor. For DCR sensing, Kelvin connect SENSE+ and SENSE- pins across the sense filter (See Datasheet)", 4 VOUT (in) "Output voltage sense for adjusting the TG on-time for constant frequency operation. Tying this pin to the local output (instead of remote output) is recommended for most applications. This pin can be programmed as needed for (See Datasheet)", 5 VOSNS- (in) "Differential Output Sensing (-) Input. Connect this pin to the negative terminal of the output capacitor. There is a bias current of 35uA (typical) flowing out of this pin.", 6 VOSNS+ (in) "Differential Output Sensing (+) Input. Connect this pin to the feedback resistor divider between the positive and negative output capacitor terminals. In nominal operation the LTC3833 will regulate the differential output (See Datasheet)", 7 TRACK/SS (in) "External Tracking and Soft-Start Input. The LTC3833 regulates the differential feedback voltage (VOSNS + - VOSNS -) to the smaller of 0.6V or the voltage on the TRACK/SS pin. An internal 1.0uA pull-up current source is (See Datasheet)", 8 ITH "Current Control Voltage and Switching Regulator Compensation Point. The current sense threshold increases with this control voltage which ranges from 0V to 2.4V.", 9 VRNG (in) "Current Sense Voltage Range Input. The maximum allowed sense voltage between SENSE+ and SENSE- is equal to 0.05 • VRNG. If VRNG is tied to SGND, the device operates with a maximum sense voltage of 30mV. If VRNG is tied t(See Datasheet)", 10 RT "Switching Frequency Programming Pin. Connect an external resistor from RT to signal ground to program the switching frequency between 200kHz and 2MHz. An external clock applied to MODE/PLLIN must be within +/-30% of this (See Datasheet)", 11 RUN (in) "Digital Run Control Input. RUN self biases high with an internal 1.3uA pull-up. Forcing RUN below 1.2V turns off TG and BG. Taking RUN below 0.75V shuts down all bias and places the LTC3833 into micropower shutdown mode of (See Datasheet)", 12 EXTVCC (power) "External VCC Input. When EXTVCC exceeds 4.6V, an internal switch connects this pin to INTVCC and shuts down the internal regulator so that the controller and gate drive power is drawn from EXTVCC. EXTVCC should not exceed (See Datasheet)", 13 MODE/PLLIN (in) "External Clock Synchronization Input and/or Forced Continuous Mode Input. When an external clock is applied to this pin, the rising TG signal will be synchronized with the rising edge of the external clock. Additionally, (See Datasheet)", 14 VIN (power) "Main Supply Input. The supply voltage can range from 4.5V to 38V. For increased noise immunity decouple this pin to signal ground with an RC filter. The voltage on this pin is also used to adjust the TG on-time in order to (See Datasheet)", 15 INTVCC (power) "Internal 5.3V Regulator Output. The driver and control circuits are powered from this voltage. Decouple this pin to power ground with a minimum of 4.7uF ceramic capacitor (CVCC). The anode of the Schottky diode, DB, connects (See Datasheet)", 16 PGND (power) "Power Ground Connection. Connect this pin as close as practical to the source of the bottom N-channel power MOSFET, the (-) terminal of CVCC and the (-) terminal of CIN.", 17 BG (out) "Bottom Gate Drive Output. This pin drives the gate of the bottom N-channel power MOSFET between INTVCC and power ground.", 18 SW "Switch Node Connection. The (-) terminal of the bootstrap capacitor, CB, connects to this node. This pin swings from a diode voltage below ground up to VIN.", 19 TG (out) "Top Gate Drive Output. This pin drives the gate of the top N-Channel power MOSFET between VSW and VBOOST .", 20 BOOST "Boosted Driver Supply Connection. The (+) terminal of the bootstrap capacitor, CB, as well as the cathode of the Schottky diode, DB, connects to this node. This node swings from INTVCC - VSCHOTTKY to VIN + INTVCC - VSCHOTTKY.", 21 EP (power) "Signal Ground Connection. The SGND exposed pad must be soldered to the circuit board for electrical contact and rated thermal performance. All small-signal components should be connected to the signal ground. Connect signal (See Datasheet)"

## LTC3833IUDC#PBF
designator U?
Fast, Accurate Step-Down DC/DC Controller with Differential Output Sensing, 20-pin QFN (UDC-20), -40 to 125 degC, Pb-Free; Manufacturer: Linear Technology; PartNumber: LTC3833IUDC#PBF; Frequency Sync Range: 200kHz - 2MHz; Number of Outputs: 1; PackageVersion: Rev. Ø, 06/2010; PackageReference: UDC20; PackageDescription: 20-Pin Plastic QFN, Body 3 x 4 mm, Pitch 0.5 mm; Supplier 1: Digi-Key; Supplier Part Number 1: LTC3833IUDC#PBF-ND; Supplier 2: Newark; Supplier Part Number 2: 13T3925; RoHS: TRUE; Mounting Technology: Surface Mount; ComponentLink1Description: Manufacturer URL; ComponentLink1URL: http://www.linear.com/; ComponentLink2Description: Datasheet; ComponentLink2URL: http://cds.linear.com/docs/en/datasheet/3833f.pdf; ComponentLink3Description: Package Specification; ComponentLink3URL: http://cds.linear.com/docs/en/packaging/QFN_20_05-08-1742.pdf
footprint LT-UDC-20_N (QFN, 20-Leads, Body 4.1x3.1mm, Pitch 0.5mm, Thermal Pad 2.65x1.65mm, IPC Medium Density)
footprint LT-UDC-20_L (QFN, 20-Leads, Body 4.1x3.1mm, Pitch 0.5mm, Thermal Pad 2.65x1.65mm, IPC High Density)
footprint LT-UDC-20_M (QFN, 20-Leads, Body 4.1x3.1mm, Pitch 0.5mm, Thermal Pad 2.65x1.65mm, IPC Low Density)
pins: 1 VOSNS- (in) "Differential Output Sensing (-) Input. Connect this pin to the negative terminal of the output capacitor. There is a bias current of 35uA (typical) flowing out of this pin.", 2 VOSNS+ (in) "Differential Output Sensing (+) Input. Connect this pin to the feedback resistor divider between the positive and negative output capacitor terminals. In nominal operation the LTC3833 will regulate the differential output (See Datasheet)", 3 TRACK/SS (in) "External Tracking and Soft-Start Input. The LTC3833 regulates the differential feedback voltage (VOSNS + - VOSNS -) to the smaller of 0.6V or the voltage on the TRACK/SS pin. An internal 1.0uA pull-up current source is (See Datasheet)", 4 ITH "Current Control Voltage and Switching Regulator Compensation Point. The current sense threshold increases with this control voltage which ranges from 0V to 2.4V.", 5 VRNG (in) "Current Sense Voltage Range Input. The maximum allowed sense voltage between SENSE+ and SENSE- is equal to 0.05 • VRNG. If VRNG is tied to SGND, the device operates with a maximum sense voltage of 30mV. If VRNG is tied t(See Datasheet)", 6 RT "Switching Frequency Programming Pin. Connect an external resistor from RT to signal ground to program the switching frequency between 200kHz and 2MHz. An external clock applied to MODE/PLLIN must be within +/-30% of this (See Datasheet)", 7 RUN (in) "Digital Run Control Input. RUN self biases high with an internal 1.3uA pull-up. Forcing RUN below 1.2V turns off TG and BG. Taking RUN below 0.75V shuts down all bias and places the LTC3833 into micropower shutdown mode of (See Datasheet)", 8 EXTVCC (power) "External VCC Input. When EXTVCC exceeds 4.6V, an internal switch connects this pin to INTVCC and shuts down the internal regulator so that the controller and gate drive power is drawn from EXTVCC. EXTVCC should not exceed (See Datasheet)", 9 MODE/PLLIN (in) "External Clock Synchronization Input and/or Forced Continuous Mode Input. When an external clock is applied to this pin, the rising TG signal will be synchronized with the rising edge of the external clock. Additionally, (See Datasheet)", 10 VIN (power) "Main Supply Input. The supply voltage can range from 4.5V to 38V. For increased noise immunity decouple this pin to signal ground with an RC filter. The voltage on this pin is also used to adjust the TG on-time in order to (See Datasheet)", 11 INTVCC (power) "Internal 5.3V Regulator Output. The driver and control circuits are powered from this voltage. Decouple this pin to power ground with a minimum of 4.7uF ceramic capacitor (CVCC). The anode of the Schottky diode, DB, connects (See Datasheet)", 12 PGND (power) "Power Ground Connection. Connect this pin as close as practical to the source of the bottom N-channel power MOSFET, the (-) terminal of CVCC and the (-) terminal of CIN.", 13 BG (out) "Bottom Gate Drive Output. This pin drives the gate of the bottom N-channel power MOSFET between INTVCC and power ground.", 14 SW "Switch Node Connection. The (-) terminal of the bootstrap capacitor, CB, connects to this node. This pin swings from a diode voltage below ground up to VIN.", 15 TG (out) "Top Gate Drive Output. This pin drives the gate of the top N-Channel power MOSFET between VSW and VBOOST .", 16 BOOST "Boosted Driver Supply Connection. The (+) terminal of the bootstrap capacitor, CB, as well as the cathode of the Schottky diode, DB, connects to this node. This node swings from INTVCC - VSCHOTTKY to VIN + INTVCC - VSCHOTTKY.", 17 PGOOD (oc) "Power Good Indicator Output. This open-drain logic output is pulled to ground when the output voltage is outside of a +/-7.5% window around the regulation point.", 18 SENSE+ (in) "Differential Current Sensing (+) Input. For RSENSE current sensing, Kelvin (4-wire) connect SENSE+ and SENSE- pins across the sense resistor. For DCR sensing, Kelvin connect SENSE+ and SENSE- pins across the sense filter (See Datasheet)", 19 SENSE- (in) "Differential Current Sensing (-) Input. For RSENSE current sensing, Kelvin (4-wire) connect SENSE+ and SENSE- pins across the sense resistor. For DCR sensing, Kelvin connect SENSE+ and SENSE- pins across the sense filter (See Datasheet)", 20 VOUT (in) "Output voltage sense for adjusting the TG on-time for constant frequency operation. Tying this pin to the local output (instead of remote output) is recommended for most applications. This pin can be programmed as needed for (See Datasheet)", 21 EP (power) "Signal Ground Connection. The SGND exposed pad must be soldered to the circuit board for electrical contact and rated thermal performance. All small-signal components should be connected to the signal ground. Connect signal (See Datasheet)"